# EAGLE library part MA07S (library con-amp-quick)
AMP QUICK CONNECTOR
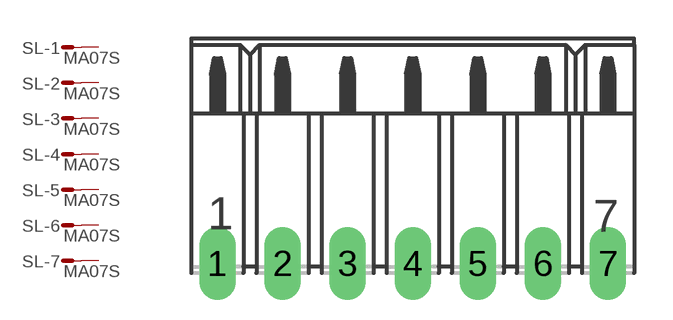
[diagram p37: symbol with the pads of 07PA; footprint 07PA]

Designator prefix SL; gates -1=M -2=M -3=M -4=M -5=M -6=M -7=M

## MA07S (OC_FARNELL: unknown; OC_NEWARK: unknown)  [07PA]
1  -1:S  pas
2  -2:S  pas
3  -3:S  pas
4  -4:S  pas
5  -5:S  pas
6  -6:S  pas
7  -7:S  pas

## Footprint 07PA (pad centres in mm)
AMP QUICK CONNECTOR
drill 0.914 long: 1 -7.62,0; 2 -5.08,0; 3 -2.54,0; 4 0,0; 5 2.54,0; 6 5.08,0; 7 7.62,0